# Altium footprint library STM PCB Lib.PcbLib: 14 footprints
Each footprint in its own frame and in the unit in brackets; x right, y up, seen from the top. Pads: shape width x height; smd on the part's side, far side on the other; paste and mask are expansions set on the pad; w line width, h text height; cw(c..) or ccw(c..) is an arc to the next point about the centre after c.
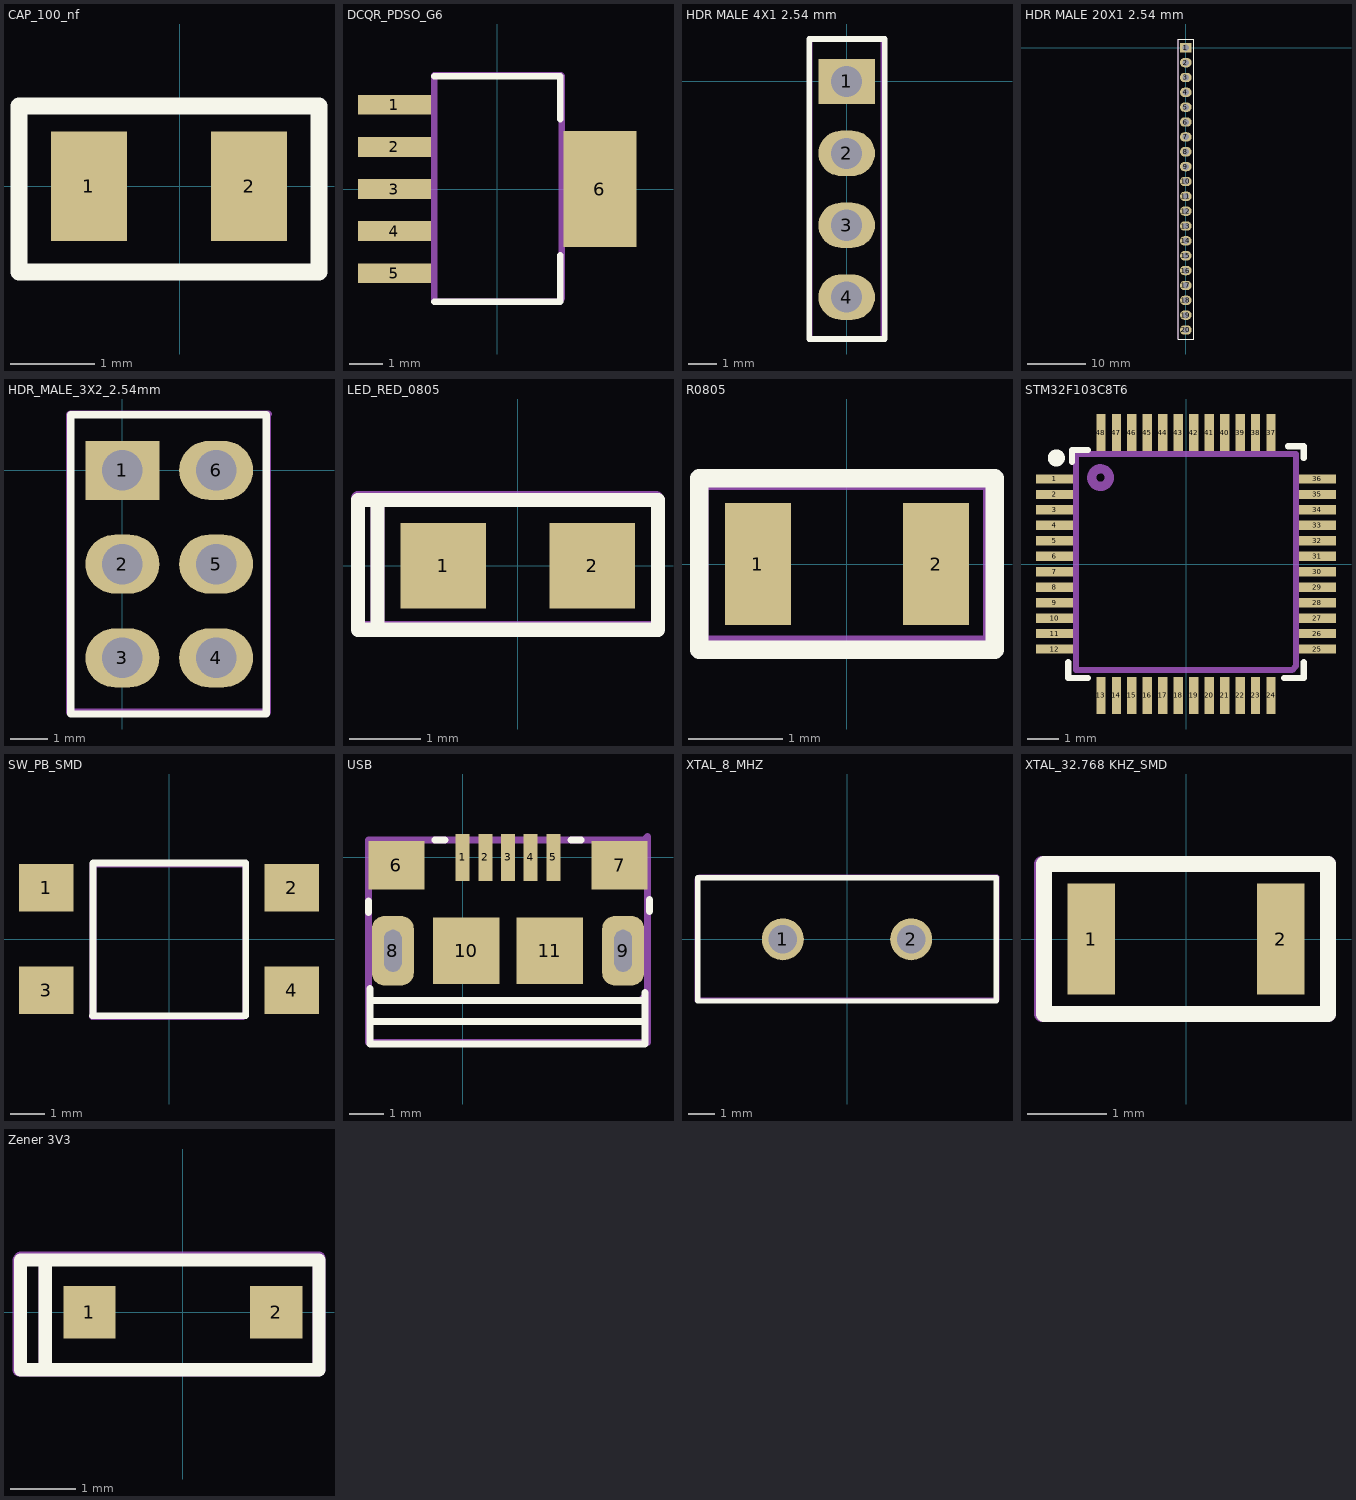
[diagram p0: the footprints below, top view; thin cyan lines are the x and y axes]

## CAP_100_nf [mm]
pads (2):
  rect 0.9x1.3 smd: 1(-1.077,0) 2(0.823,0)
Top Overlay:
  lines w0.2: -1.905,-1.016 1.651,-1.016 1.651,0.95 -1.905,0.95 -1.905,-1.016
3D body "User Library-Chip Capacitor2.step": height 0.87, standoff 0.01, extent -0.8,-0.4 0.8,0.4

## DCQR_PDSO_G6 [mm]
pads (6):
  rect 2.2x0.6 smd: 1(-3.1,2.54) 2(-3.1,1.27) 3(-3.1,0) 4(-3.1,-1.27) 5(-3.1,-2.54)
  rect 2.2x3.5 smd: 6(3.1,0)
Top Overlay:
  lines w0.2: -1.9,-3.4 1.9,-3.4 1.9,-2 ; -1.9,3.4 1.9,3.4 1.9,2.1
Mechanical 1:
  lines w0.2: -1.9,-3.35 -1.9,3.425 1.925,3.425 1.95,3.4 1.95,-3.3 1.85,-3.4 -1.85,-3.4 -1.9,-3.35
  text ".Designator" at -1.121,0.062 h1.52
3D body "User Library-TPS73701DCQ (1).step": height 1.81, standoff 0.01, extent -3.655,-3.275 3.605,3.275

## HDR MALE 4X1 2.54 mm [mm]
pads (4):
  rect 2x1.6 hole 1.1: 1(0,0)
  oval 2x1.6 hole 1.1: 2(0,-2.54) 3(0,-5.08) 4(0,-7.62)
Top Overlay:
  lines w0.2: -1.325,-9.1 1.35,-9.1 1.35,1.5 -1.325,1.5 -1.325,-9.1
Mechanical 1:
  lines w0.2: -1.3,-9.1 1.3,-9.1 1.3,1.5 -1.3,1.5 -1.3,-9.1
  text "1" at 1.954,-0.846 h1.52
  text ".Designator" at -0.338,-1.654 h1.52
3D body "_ _C04SBEN.step": height 4.39, standoff -5.83, extent -14.528,-8.9 1.728,1.26

## HDR MALE 20X1 2.54 mm [mm]
pads (20):
  rect 2x1.6 hole 1.1: 1(0,0)
  oval 2x1.6 hole 1.1: 2(0,-2.54) 3(0,-5.08) 4(0,-7.62) 5(0,-10.16) 6(0,-12.7) 7(0,-15.24) 8(0,-17.78) 9(0,-20.32) 10(0,-22.86) 11(0,-25.4) 12(0,-27.94) 13(0,-30.48) 14(0,-33.02) 15(0,-35.56) 16(0,-38.1) 17(0,-40.64) 18(0,-43.18) 19(0,-45.72) 20(0,-48.26)
Top Overlay:
  lines w0.2: -1.325,-49.8 1.35,-49.8 1.35,1.5 -1.325,1.5 -1.325,-49.8
Mechanical 1:
  lines w0.2: -1.3,1.495 -1.3,-49.8 1.4,-49.8 1.4,1.5 -1.3,1.5
  text ".Designator" at -0.538,-5.654 h1.52
  text "1" at 2.054,-0.746 h1.52
3D body "_ _ _C020SACN-RC.STEP": height 10.64, standoff -5.83, extent -1.14,-49.5 1.4,1.3

## HDR_MALE_3X2_2.54mm [mm]
pads (6):
  rect 2x1.6 hole 1.1: 1(0,0)
  oval 2x1.6 hole 1.1: 2(0,-2.54) 3(0,-5.08) 4(2.54,-5.08) 5(2.54,-2.54) 6(2.54,0)
Top Overlay:
  lines w0.2: -1.4,-6.6 3.9,-6.6 3.9,1.5 -1.4,1.5 -1.4,-6.6
Mechanical 1:
  lines w0.2: -1.425,1.5 -1.425,-6.55 3.925,-6.55 3.925,1.5 3.95,1.525 -1.4,1.525
  text ".Designator" at 0.887,0.521 h1.52
3D body "_ _ _C003DFAN-RC.STEP": height 10.59, standoff -3.04, extent -1.25,-6.31 3.75,1.31

## LED_RED_0805 [mm]
pads (2):
  rect 1.2x1.2 smd: 1(-1.05,0) 2(1.05,0)
Top Overlay:
  lines w0.2: -1.975,-0.9 -1.975,0.925 ; -1.975,-0.9 1.975,-0.9 1.975,0.925 -1.975,0.925 ; -1.975,-0.9 -2.25,-0.9 -2.25,0.925 -1.975,0.925
Mechanical 1:
  lines w0.2: -1.975,-0.85 -1.975,0.85 ; -2.25,-0.85 -2.25,0.95 1.95,0.95 1.975,0.925 1.975,-0.825 1.925,-0.875 -2.225,-0.875 -2.25,-0.85
  text ".Designator" at -1.025,-0.342 h1
3D body "User Library-LED SMD0805.step": height 0.86, standoff 0.01, extent -1.031,-0.45 1.031,0.456
3D body: height 1.1, standoff 0.85, extent -0.45,-0.375 0.45,0.4

## PCBComponent_1 [mm]

## R0805 [mm]
pads (2):
  rect 0.7x1.3 smd: 1(-0.95,0) 2(0.95,0)
Top Overlay:
  lines w0.2: -1.575,-0.914 -1.575,0.914 1.575,0.914 1.575,-0.914 -1.575,-0.914
Mechanical 1:
  lines w0.2: -1.575,-0.889 -1.575,0.889 1.549,0.889 1.549,-0.838 1.575,-0.864 -1.549,-0.864 -1.575,-0.889
3D body "User Library-Chip Resistor2.step": height 0.71, standoff 0.01, extent -1,-0.6 1,0.6

## STM32F103C8T6 [mm]
pads (48):
  rect 1.2x0.3 smd paste+0 mask+0.05: 1(-4.25,2.75) 2(-4.25,2.25) 3(-4.25,1.75) 4(-4.25,1.25) 5(-4.25,0.75) 6(-4.25,0.25) 7(-4.25,-0.25) 8(-4.25,-0.75) 9(-4.25,-1.25) 10(-4.25,-1.75) 11(-4.25,-2.25) 12(-4.25,-2.75) 25(4.25,-2.75) 26(4.25,-2.25) 27(4.25,-1.75) 28(4.25,-1.25) 29(4.25,-0.75) 30(4.25,-0.25) 31(4.25,0.25) 32(4.25,0.75) 33(4.25,1.25) 34(4.25,1.75) 35(4.25,2.25) 36(4.25,2.75)
  rect 0.3x1.2 smd paste+0 mask+0.05: 13(-2.75,-4.25) 14(-2.25,-4.25) 15(-1.75,-4.25) 16(-1.25,-4.25) 17(-0.75,-4.25) 18(-0.25,-4.25) 19(0.25,-4.25) 20(0.75,-4.25) 21(1.25,-4.25) 22(1.75,-4.25) 23(2.25,-4.25) 24(2.75,-4.25) 37(2.75,4.25) 38(2.25,4.25) 39(1.75,4.25) 40(1.25,4.25) 41(0.75,4.25) 42(0.25,4.25) 43(-0.25,4.25) 44(-0.75,4.25) 45(-1.25,4.25) 46(-1.75,4.25) 47(-2.25,4.25) 48(-2.75,4.25)
Top Overlay:
  circle w0.3: c-4.191,3.429 r0.127
  lines w0.2: -3.81,-3.175 -3.81,-3.683 -3.175,-3.683 ; -3.683,3.302 -3.683,3.683 ; 3.81,-3.175 3.81,-3.683 ; 3.81,3.429 3.81,3.81 ; -3.683,3.683 -3.175,3.683 -3.683,3.683 ; 3.81,-3.683 3.175,-3.683 3.81,-3.683 ; 3.81,3.81 3.302,3.81 3.81,3.81
Mechanical 1:
  circle w0.3: c-2.764,2.794 r0.284
  lines w0.2: -3.556,-3.429 3.429,-3.429 3.556,-3.302 3.556,3.556 -3.556,3.556 -3.556,-3.429
  text ".Designator" at -2.721,-0.388 h1.52
3D body "User Library-STM32F103C8T6.step": height 1.55, standoff 0, extent -4.5,-4.5 4.5,4.5

## SW_PB_SMD [mm]
pads (4):
  rect 1.6x1.4 smd: 1(-3.6,1.5) 2(3.6,1.5) 3(-3.6,-1.5) 4(3.6,-1.5)
Top Overlay:
  lines w0.2: -2.25,-2.25 -2.225,-2.225 -2.225,2.225 2.25,2.225 2.25,-2.25 -2.25,-2.25
Mechanical 1:
  lines w0.2: -2.25,-2.275 -2.225,-2.25 -2.225,2.2 2.25,2.2 2.25,-2.2 2.175,-2.275 -2.25,-2.275
  text ".Designator" at -1.271,-0.263 h1.52
3D body "Switch_E-SWITCH_TL3305AF160QG_eec.STEP": height 4, standoff 0, extent -3.75,-2.3 3.75,2.2

## USB [mm]
pads (11):
  rect 0.4x1.35 smd mask+0.05: 1(0,0) 2(0.65,0) 3(1.3,0) 4(1.95,0) 5(2.6,0)
  rect 1.6x1.4 smd: 6(-1.9,-0.225) 7(4.5,-0.225)
  rrect60% 1.2x2 hole 0.5 slot 1.2 at 90 deg mask+0.05: 8(-2,-2.675) 9(4.6,-2.675)
  rect 1.9x1.9 smd: 10(0.1,-2.675) 11(2.5,-2.675)
Top Overlay:
  lines w0.2: -2.7,-1.575 -2.7,-1.25 ; -2.65,-3.75 -2.65,-5.325 -2.65,-5.35 5.225,-5.35 5.225,-3.875 ; -2.6,-4.7 5.2,-4.7 ; -2.6,-4.1 5.2,-4.1 ; -0.8,0.5 -0.5,0.5 ; 3.1,0.5 3.4,0.5 ; 5.35,-1.55 5.35,-1.2
Mechanical 1:
  lines w0.2: -2.7,-4.7 5.1,-4.7 ; -2.7,-4.1 5.1,-4.1 5.2,-4 ; -2.7,-5.3 -2.7,0.5 5.2,0.5 5.3,0.6 5.3,-5.3 -2.7,-5.3
3D body "10118193-0001lfc.stp": height 2.87, standoff -0.73, extent -2.632,-5.38 5.225,0.28

## XTAL_8_MHZ [mm]
pads (2):
  round 1.6 / inner round 1 / far side round 1.6 hole 1.1: 1(-2.45,0) 2(2.45,0)
Top Overlay:
  lines w0.2: -5.7,-2.35 5.7,-2.35 5.7,2.35 -5.7,2.35 -5.7,-2.35
Mechanical 1:
  lines w0.2: -5.725,-2.325 5.7,-2.325 5.725,-2.3 5.725,2.375 -5.625,2.375 -5.725,2.275 -5.725,-2.325
  text ".Designator" at -3.421,-0.463 h1.52
3D body "User Library-HC_49_USX.step": height 4.01, standoff -1.99, extent -5.675,-2.375 5.675,2.275

## XTAL_32.768 KHZ_SMD [mm]
pads (2):
  rect 0.6x1.4 smd: 1(-1.2,0) 2(1.2,0)
Top Overlay:
  lines w0.2: -1.8,-0.95 -1.8,0.95 1.8,0.95 1.8,-0.95 -1.8,-0.95
Mechanical 1:
  lines w0.2: -1.825,-0.95 -1.825,0.95 1.8,0.95 1.8,-0.95 1.6,-0.95 -1.825,-0.95
  text ".Designator" at -1.4,-0.333 h0.8
3D body "User Library-ABS07.STEP": height 0.92, standoff 0.01, extent -1.61,-0.735 1.61,0.785

## Zener 3V3 [mm]
pads (2):
  rect 0.8x0.8 smd: 1(-1.425,0) 2(1.425,0)
Top Overlay:
  lines w0.2: -2.1,-0.875 2.075,-0.875 2.075,0.8 -2.1,0.8 ; -2.1,-0.875 -2.1,0.8 ; -2.1,-0.875 -2.475,-0.875 -2.475,0.8 -2.1,0.8
Mechanical 1:
  lines w0.2: -2.1,-0.85 -2.1,0.8 ; -2.5,-0.875 2.075,-0.875 2.075,0.825 -2.475,0.825 -2.5,0.8 -2.5,-0.875
  text ".Designator" at -1.35,-0.392 h1
3D body "rd3_3s-a.stp": height 0.9, standoff 0, extent -1.275,-0.65 1.225,0.6